# EAGLE library part SPI_CARD (library SquantorModules)
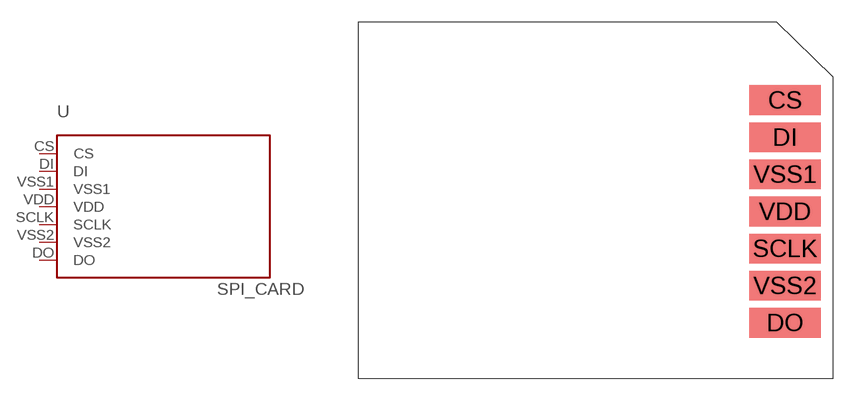
[diagram p0: symbol with the pads of SPI_CARD; footprint SPI_CARD]

Designator prefix -

## SPI_CARD  [SPI_CARD]
CS  CS
DI  DI
DO  DO
SCLK  SCLK
VDD  VDD
VSS1  VSS1
VSS2  VSS2

## Footprint SPI_CARD (pad centres in mm)
smd 4.8 x 2: CS 12.75,6.75; DI 12.75,4.25; DO 12.75,-8.25; SCLK 12.75,-3.25; VDD 12.75,-0.75; VSS1 12.75,1.75; VSS2 12.75,-5.75